# Altium footprint library PcbLib1.PcbLib: 3 footprints
Each footprint in its own frame and in the unit in brackets; x right, y up, seen from the top. Pads: shape width x height; smd on the part's side, far side on the other; paste and mask are expansions set on the pad; w line width, h text height; cw(c..) or ccw(c..) is an arc to the next point about the centre after c.
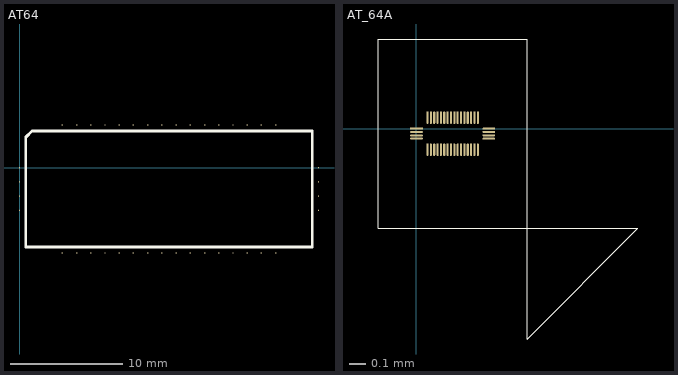
[diagram p0: the footprints below, top view; thin cyan lines are the x and y axes]

## AT64 [mil]
pads (40):
  rect 3x5 smd: 1(0,0)
  oval 3x5 smd: 2(0,-50) 3(0,-100) 4(0,-150) 21(1050,-150) 22(1050,-100) 23(1050,-50) 24(1050,0)
  oval 5x3 smd: 5(150,-300) 6(200,-300) 7(250,-300) 8(300,-300) 9(350,-300) 10(400,-300) 11(450,-300) 12(500,-300) 13(550,-300) 14(600,-300) 15(650,-300) 16(700,-300) 17(750,-300) 18(800,-300) 19(850,-300) 20(900,-300) 25(900,150) 26(850,150) 27(800,150) 28(750,150) 29(700,150) 30(650,150) 31(600,150) 32(550,150) 33(500,150) 34(450,150) 35(400,150) 36(350,150) 37(300,150) 38(250,150) 39(200,150) 40(150,150)
Top Overlay:
  lines w10: 21.5,-278.5 21.5,107 43,128.5 1028.5,128.5 1028.5,-278.5 21.5,-278.5

## AT_64A [mil]
pads (40):
  rect 3x0.5 smd: 1(0,0)
  oval 3x0.5 smd: 2(0,-0.8) 3(0,-1.6) 4(0,-2.4) 21(17.25,-2.4) 22(17.25,-1.6) 23(17.25,-0.8) 24(17.25,0)
  oval 0.5x3 smd: 5(2.62,-5.03) 6(3.42,-5.03) 7(4.22,-5.03) 8(5.03,-5.03) 9(5.83,-5.03) 10(6.62,-5.03) 11(7.42,-5.03) 12(8.22,-5.03) 13(9.03,-5.03) 14(9.82,-5.03) 15(10.62,-5.03) 16(11.43,-5.03) 17(12.22,-5.03) 18(13.03,-5.03) 19(13.82,-5.03) 20(14.62,-5.03) 25(14.62,2.62) 26(13.82,2.62) 27(13.03,2.62) 28(12.22,2.62) 29(11.43,2.62) 30(10.62,2.62) 31(9.82,2.62) 32(9.03,2.62) 33(8.22,2.62) 34(7.42,2.62) 35(6.62,2.62) 36(5.83,2.62) 37(5.03,2.62) 38(4.22,2.62) 39(3.42,2.62) 40(2.62,2.62)
Top Overlay:
  lines w0.2: -9.15,-23.77 -9.15,21.38 26.4,21.38 26.4,-50.17 52.8,-23.77 -9.15,-23.77

## PCBComponent_1 [mil]